# EAGLE library part 251-308 (library con-wago_251)
Serie 251, Kombi-Leiterplatten-Klemmenblock mit IDC-Kontakt / Series 251, Combi PCB terminal block with IDC contact Polzahl / Pole No.: 8 Rastermaß / Pitch: 3.5 mm Bemessungsspannung / Rated Voltage: 500 V Nennstrom / Nominal Current: 6 A Leiterquerschnitt / Conductor Size: 0.5 - 1 mm² Anschlusstechnik / Connection Technology: PUSH WIRE® Lötstiftlänge: / Solder Pin Length: 3.6 mm Leitereinführung (zur Platine) / Conductor entry angle (to PCB): 0 ° Farbe / Color: weiß / white Stand: 01.01.2012. Die jeweils aktuellen Daten zu diesem Artikel finden Sie in unserem Produktkatalog, den Sie unter www.wago.com einsehen können. As of: 01/01/2012. Please find the newest data for this article in our product catalogue, which can be viewed under www.wago.com.
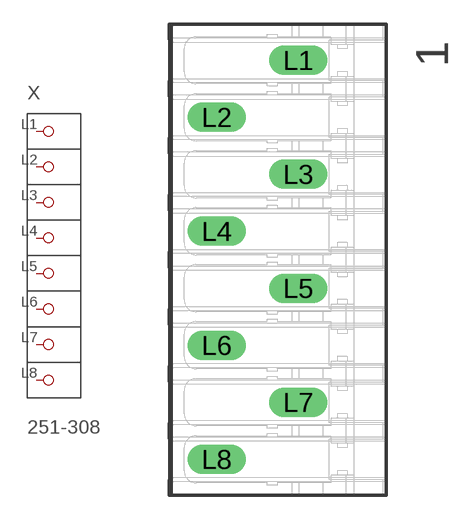
[diagram p4: symbol with the pads of P-251-308; footprint P-251-308]

Designator prefix X

## 251-308  [P-251-308]
L1  P1
L2  P2
L3  P3
L4  P4
L5  P5
L6  P6
L7  P7
L8  P8

## Footprint P-251-308 (pad centres in mm)
drill 1.2 long: L1 1.25,12.25; L2 -3.75,8.75; L3 1.25,5.25; L4 -3.75,1.75; L5 1.25,-1.75; L6 -3.75,-5.25; L7 1.25,-8.75; L8 -3.75,-12.25